# Altium integrated library Dallas Memory Static RAM.IntLib: 12 symbols
Pins are listed as number, name and electrical type; pins without a type are passive.

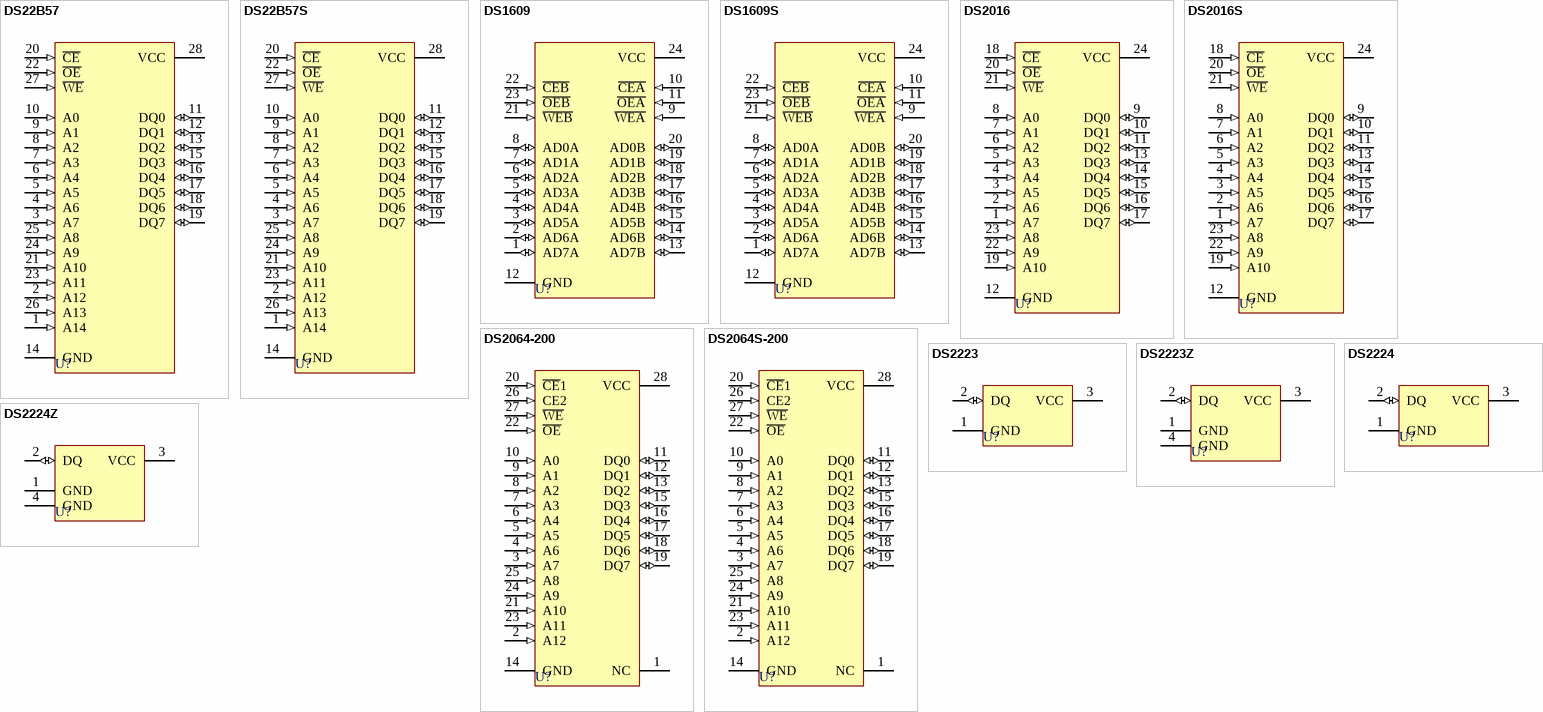
[diagram p0: symbols DS22B57 to DS2224Z]

## DS22B57
designator U?
32K X 8 Static RAM; Published: 13-Oct-2000; LatestRevisionDate: 06-Jun-2005; LatestRevisionNote: Stylized 3D Model Added.; DatasheetVersion: 5-Apr-1994; PackageVersion: 1994; PackageReference: DIP28WC; Publisher: Altium Limited; PackageDescription: DIP; 28 Leads; Row Spacing 15.24 mm; Pitch 2.54 mm; ComponentLink1Description: Manufacturer Link; ComponentLink1URL: http://www.maxim-ic.com/
footprint DIP28WC (DIP; 28 Leads; Row Spacing 15.24 mm; Pitch 2.54 mm)
3D model DIP28WA (DIP; 28 Leads; Row Spacing 15.24 mm; Pitch 2.54 mm)
pins: 1 A14 (in), 2 A12 (in), 3 A7 (in), 4 A6 (in), 5 A5 (in), 6 A4 (in), 7 A3 (in), 8 A2 (in), 9 A1 (in), 10 A0 (in), 11 DQ0 (io), 12 DQ1 (io), 13 DQ2 (io), 14 GND (power), 15 DQ3 (io), 16 DQ4 (io), 17 DQ5 (io), 18 DQ6 (io), 19 DQ7 (io), 20 ~{CE} (in), 21 A10 (in), 22 ~{OE} (in), 23 A11 (in), 24 A9 (in), 25 A8 (in), 26 A13 (in), 27 ~{WE} (in), 28 VCC (power)

## DS22B57S
designator U?
32K X 8 Static RAM; Published: 13-Oct-2000; LatestRevisionDate: 13-Apr-2006; LatestRevisionNote: IPC-7351 Footprint Added.; DatasheetVersion: 5-Apr-1994; PackageVersion: Apr-1998; PackageReference: SOIC28WA; Publisher: Altium Limited; PackageDescription: 28-Pin Small Outline Integrated Circuit 1.27 mm Pitch; Code_JEDEC: MO-120-AB; ComponentLink1Description: Manufacturer Link; ComponentLink1URL: http://www.maxim-ic.com/
footprint SOIC28WA_N (SOIC, 28-Leads, Body 17.9x8.4mm, Pitch 1.27mm, IPC Medium Density)
footprint SOIC28WA_L (SOIC, 28-Leads, Body 17.9x8.4mm, Pitch 1.27mm, IPC High Density)
footprint SOIC28WA_M (SOIC, 28-Leads, Body 17.9x8.4mm, Pitch 1.27mm, IPC Low Density)
3D model SOIC28WA (28-Pin Small Outline Integrated Circuit 1.27 mm Pitch)
pins: 1 A14 (in), 2 A12 (in), 3 A7 (in), 4 A6 (in), 5 A5 (in), 6 A4 (in), 7 A3 (in), 8 A2 (in), 9 A1 (in), 10 A0 (in), 11 DQ0 (io), 12 DQ1 (io), 13 DQ2 (io), 14 GND (power), 15 DQ3 (io), 16 DQ4 (io), 17 DQ5 (io), 18 DQ6 (io), 19 DQ7 (io), 20 ~{CE} (in), 21 A10 (in), 22 ~{OE} (in), 23 A11 (in), 24 A9 (in), 25 A8 (in), 26 A13 (in), 27 ~{WE} (in), 28 VCC (power)

## DS1609
designator U?
Dual Port RAM; Published: 13-Oct-2000; LatestRevisionDate: 06-Jun-2005; LatestRevisionNote: Stylized 3D Model Added.; DatasheetVersion: 4-Feb-1999; PackageVersion: 1999; PackageReference: DIP24W; Publisher: Altium Limited; PackageDescription: DIP; 24 Leads; Row Spacing 15.24 mm; Pitch 2.54 mm; ComponentLink1Description: Manufacturer Link; ComponentLink1URL: http://www.maxim-ic.com/; ComponentLink2Description: Datasheet; ComponentLink2URL: http://pdfserv.maxim-ic.com/en/ds/DS1609.pdf
footprint DIP24W (DIP; 24 Leads; Row Spacing 15.24 mm; Pitch 2.54 mm)
3D model DIP24W (DIP; 24 Leads; Row Spacing 15.24 mm; Pitch 2.54 mm)
pins: 1 AD7A (io), 2 AD6A (io), 3 AD5A (io), 4 AD4A (io), 5 AD3A (io), 6 AD2A (io), 7 AD1A (io), 8 AD0A (io), 9 ~{WEA} (in), 10 ~{CEA} (in), 11 ~{OEA} (in), 12 GND (power), 13 AD7B (io), 14 AD6B (io), 15 AD5B (io), 16 AD4B (io), 17 AD3B (io), 18 AD2B (io), 19 AD1B (io), 20 AD0B (io), 21 ~{WEB} (in), 22 ~{CEB} (in), 23 ~{OEB} (in), 24 VCC (power)

## DS1609S
designator U?
Dual Port RAM; ComponentAvailability: Not for New Design; Published: 13-Oct-2000; LatestRevisionDate: 13-Apr-2006; LatestRevisionNote: IPC-7351 Footprint Added.; DatasheetVersion: 4-Feb-1999; PackageVersion: 1994; PackageReference: SOIC24NA; Publisher: Altium Limited; PackageDescription: 24-Pin Small Outline Integrated Circuit 1.27 mm Pitch; Code_IPC: SOIC127P1047-24; ComponentLink1Description: Manufacturer Link; ComponentLink1URL: http://www.maxim-ic.com/; ComponentLink2Description: Datasheet; ComponentLink2URL: http://pdfserv.maxim-ic.com/en/ds/DS1609.pdf
footprint SOIC24NA_N (SOIC, 24-Leads, Body 15.4x7.5mm, Pitch 1.27mm, IPC Medium Density)
footprint SOIC24NA_L (SOIC, 24-Leads, Body 15.4x7.5mm, Pitch 1.27mm, IPC High Density)
footprint SOIC24NA_M (SOIC, 24-Leads, Body 15.4x7.5mm, Pitch 1.27mm, IPC Low Density)
3D model SOIC24NA (24-Pin Small Outline Integrated Circuit 1.27 mm Pitch)
pins: 1 AD7A (io), 2 AD6A (io), 3 AD5A (io), 4 AD4A (io), 5 AD3A (io), 6 AD2A (io), 7 AD1A (io), 8 AD0A (io), 9 ~{WEA} (in), 10 ~{CEA} (in), 11 ~{OEA} (in), 12 GND (power), 13 AD7B (io), 14 AD6B (io), 15 AD5B (io), 16 AD4B (io), 17 AD3B (io), 18 AD2B (io), 19 AD1B (io), 20 AD0B (io), 21 ~{WEB} (in), 22 ~{CEB} (in), 23 ~{OEB} (in), 24 VCC (power)

## DS2016
designator U?
2K X 8 3V/5V Operation Static RAM; Published: 13-Oct-2000; LatestRevisionDate: 06-Jun-2005; LatestRevisionNote: Stylized 3D Model Added.; DatasheetVersion: 25-Feb-1998; PackageVersion: 1999; PackageReference: DIP24W; Publisher: Altium Limited; PackageDescription: DIP; 24 Leads; Row Spacing 15.24 mm; Pitch 2.54 mm; ComponentLink1Description: Manufacturer Link; ComponentLink1URL: http://www.maxim-ic.com/; ComponentLink2Description: Datasheet; ComponentLink2URL: http://pdfserv.maxim-ic.com/en/ds/DS2016.pdf
footprint DIP24W (DIP; 24 Leads; Row Spacing 15.24 mm; Pitch 2.54 mm)
3D model DIP24W (DIP; 24 Leads; Row Spacing 15.24 mm; Pitch 2.54 mm)
pins: 1 A7 (in), 2 A6 (in), 3 A5 (in), 4 A4 (in), 5 A3 (in), 6 A2 (in), 7 A1 (in), 8 A0 (in), 9 DQ0 (io), 10 DQ1 (io), 11 DQ2 (io), 12 GND (power), 13 DQ3 (io), 14 DQ4 (io), 15 DQ5 (io), 16 DQ6 (io), 17 DQ7 (io), 18 ~{CE} (in), 19 A10 (in), 20 ~{OE} (in), 21 ~{WE} (in), 22 A9 (in), 23 A8 (in), 24 VCC (power)

## DS2016S
designator U?
2K X 8 3V/5V Operation Static RAM; Published: 13-Oct-2000; LatestRevisionDate: 13-Apr-2006; LatestRevisionNote: IPC-7351 Footprint Added.; DatasheetVersion: 25-Feb-1998; PackageVersion: Feb-1998; PackageReference: SOIC24WA; Publisher: Altium Limited; PackageDescription: 24-Pin Small Outline Integrated Circuit 1.27 mm Pitch; ComponentLink1Description: Manufacturer Link; ComponentLink1URL: http://www.maxim-ic.com/; ComponentLink2Description: Datasheet; ComponentLink2URL: http://pdfserv.maxim-ic.com/en/ds/DS2016.pdf
footprint SOIC24WA_N (SOIC, 24-Leads, Body 15.6x8.6mm, Pitch 1.27mm, IPC Medium Density)
footprint SOIC24WA_L (SOIC, 24-Leads, Body 15.6x8.6mm, Pitch 1.27mm, IPC High Density)
footprint SOIC24WA_M (SOIC, 24-Leads, Body 15.6x8.6mm, Pitch 1.27mm, IPC Low Density)
3D model SOIC24WA (24-Pin Small Outline Integrated Circuit 1.27 mm Pitch)
pins: 1 A7 (in), 2 A6 (in), 3 A5 (in), 4 A4 (in), 5 A3 (in), 6 A2 (in), 7 A1 (in), 8 A0 (in), 9 DQ0 (io), 10 DQ1 (io), 11 DQ2 (io), 12 GND (power), 13 DQ3 (io), 14 DQ4 (io), 15 DQ5 (io), 16 DQ6 (io), 17 DQ7 (io), 18 ~{CE} (in), 19 A10 (in), 20 ~{OE} (in), 21 ~{WE} (in), 22 A9 (in), 23 A8 (in), 24 VCC (power)

## DS2064-200
designator U?
8K X 8 Static RAM; Note: Pin number 1 is Not Connected (NC); Published: 13-Oct-2000; LatestRevisionDate: 06-Jun-2005; LatestRevisionNote: Stylized 3D Model Added.; DatasheetVersion: 25-Feb-1998; PackageVersion: 1998; PackageReference: DIP28WA; Publisher: Altium Limited; PackageDescription: DIP; 28 Leads; Row Spacing 15.24 mm; Pitch 2.54 mm; ComponentLink1Description: Manufacturer Link; ComponentLink1URL: http://www.maxim-ic.com/; ComponentLink2Description: Datasheet; ComponentLink2URL: http://pdfserv.maxim-ic.com/en/ds/DS2064.pdf
footprint DIP28WA (DIP; 28 Leads; Row Spacing 15.24 mm; Pitch 2.54 mm)
3D model DIP28WA (DIP; 28 Leads; Row Spacing 15.24 mm; Pitch 2.54 mm)
pins: 1 NC, 2 A12 (in), 3 A7 (in), 4 A6 (in), 5 A5 (in), 6 A4 (in), 7 A3 (in), 8 A2 (in), 9 A1 (in), 10 A0 (in), 11 DQ0 (io), 12 DQ1 (io), 13 DQ2 (io), 14 GND (power), 15 DQ3 (io), 16 DQ4 (io), 17 DQ5 (io), 18 DQ6 (io), 19 DQ7 (io), 20 ~{CE}1 (in), 21 A10 (in), 22 ~{OE} (in), 23 A11 (in), 24 A9 (in), 25 A8 (in), 26 CE2 (in), 27 ~{WE} (in), 28 VCC (power)

## DS2064S-200
designator U?
8K X 8 Static RAM; Note: Pin number 1 is Not Connected (NC); Published: 13-Oct-2000; LatestRevisionDate: 13-Apr-2006; LatestRevisionNote: IPC-7351 Footprint Added.; DatasheetVersion: 25-Feb-1998; PackageVersion: Feb-1998; PackageReference: SOIC28VWB; Publisher: Altium Limited; PackageDescription: 28-Pin Small Outline Package 1.27 mm Pitch; ComponentLink1Description: Manufacturer Link; ComponentLink1URL: http://www.maxim-ic.com/; ComponentLink2Description: Datasheet; ComponentLink2URL: http://pdfserv.maxim-ic.com/en/ds/DS2064.pdf
footprint SOIC28VWB_N (SOP, 28-Leads, Body 18.1x8.6mm, Pitch 1.27mm, IPC Medium Density)
footprint SOIC28VWB_L (SOP, 28-Leads, Body 18.1x8.6mm, Pitch 1.27mm, IPC High Density)
footprint SOIC28VWB_M (SOP, 28-Leads, Body 18.1x8.6mm, Pitch 1.27mm, IPC Low Density)
3D model SOIC28VWB (28-Pin Small Outline Package 1.27 mm Pitch)
pins: 1 NC, 2 A12 (in), 3 A7 (in), 4 A6 (in), 5 A5 (in), 6 A4 (in), 7 A3 (in), 8 A2 (in), 9 A1 (in), 10 A0 (in), 11 DQ0 (io), 12 DQ1 (io), 13 DQ2 (io), 14 GND (power), 15 DQ3 (io), 16 DQ4 (io), 17 DQ5 (io), 18 DQ6 (io), 19 DQ7 (io), 20 ~{CE}1 (in), 21 A10 (in), 22 ~{OE} (in), 23 A11 (in), 24 A9 (in), 25 A8 (in), 26 CE2 (in), 27 ~{WE} (in), 28 VCC (power)

## DS2223
designator U?
EconoRAM; Published: 13-Oct-2000; LatestRevisionDate: 17-Jul-2002; LatestRevisionNote: Re-released for DXP Platform.; DatasheetVersion: 5-Aug-1998; PackageVersion: Feb-1999; PackageReference: TO-92; Publisher: Altium Limited; PackageDescription: TO, Flat Index; 3 In-Line, Axial Leads; Body Dia. 4.7mm; Leads 0.56 x 0.51 mm (max); ComponentLink1Description: Manufacturer Link; ComponentLink1URL: http://www.maxim-ic.com/; ComponentLink2Description: Datasheet; ComponentLink2URL: http://pdfserv.maxim-ic.com/en/ds/DS2223-DS2224.pdf; ComponentLink3Description: Discontinuation Notice; ComponentLink3URL: http://www.maxim-ic.com/qa/pdfs/non-obsolescence-letter.pdf
footprint TO-92 (TO, Flat Index; 3 In-Line, Axial Leads; Body Dia. 4.7mm; Leads 0.56 x 0.51 mm (max))
pins: 1 GND (power), 2 DQ (io), 3 VCC (power)

## DS2223Z
designator U?
EconoRAM; Published: 13-Oct-2000; LatestRevisionDate: 17-Jul-2002; LatestRevisionNote: Re-released for DXP Platform.; DatasheetVersion: 5-Aug-1998; PackageVersion: Feb-1999; PackageReference: SOT-223; Publisher: Altium Limited; PackageDescription: SOT-223/SC-73; 4 Leads; Body 6.7 x 7.3 mm, inc. leads (LxW max); ComponentLink1Description: Manufacturer Link; ComponentLink1URL: http://www.maxim-ic.com/; ComponentLink2Description: Datasheet; ComponentLink2URL: http://pdfserv.maxim-ic.com/en/ds/DS2223-DS2224.pdf; ComponentLink3Description: Discontinuation Notice; ComponentLink3URL: http://www.maxim-ic.com/qa/pdfs/non-obsolescence-letter.pdf
footprint SOT-223 (SOT-223/SC-73; 4 Leads; Body 6.7 x 7.3 mm, inc. leads (LxW max))
pins: 1 GND (power), 2 DQ (io), 3 VCC (power), 4 GND (power)

## DS2224
designator U?
EconoRAM; Published: 13-Oct-2000; LatestRevisionDate: 17-Jul-2002; LatestRevisionNote: Re-released for DXP Platform.; DatasheetVersion: 5-Aug-1998; PackageVersion: Feb-1999; PackageReference: TO-92; Publisher: Altium Limited; PackageDescription: TO, Flat Index; 3 In-Line, Axial Leads; Body Dia. 4.7mm; Leads 0.56 x 0.51 mm (max); ComponentLink1Description: Manufacturer Link; ComponentLink1URL: http://www.maxim-ic.com/; ComponentLink2Description: Datasheet; ComponentLink2URL: http://pdfserv.maxim-ic.com/en/ds/DS2223-DS2224.pdf; ComponentLink3Description: Discontinuation Notice; ComponentLink3URL: http://www.maxim-ic.com/qa/pdfs/non-obsolescence-letter.pdf
footprint TO-92 (TO, Flat Index; 3 In-Line, Axial Leads; Body Dia. 4.7mm; Leads 0.56 x 0.51 mm (max))
pins: 1 GND (power), 2 DQ (io), 3 VCC (power)

## DS2224Z
designator U?
EconoRAM; Published: 13-Oct-2000; LatestRevisionDate: 17-Jul-2002; LatestRevisionNote: Re-released for DXP Platform.; DatasheetVersion: 5-Aug-1998; PackageVersion: Feb-1999; PackageReference: SOT-223; Publisher: Altium Limited; PackageDescription: SOT-223/SC-73; 4 Leads; Body 6.7 x 7.3 mm, inc. leads (LxW max); ComponentLink1Description: Manufacturer Link; ComponentLink1URL: http://www.maxim-ic.com/; ComponentLink2Description: Datasheet; ComponentLink2URL: http://pdfserv.maxim-ic.com/en/ds/DS2223-DS2224.pdf; ComponentLink3Description: Discontinuation Notice; ComponentLink3URL: http://www.maxim-ic.com/qa/pdfs/non-obsolescence-letter.pdf
footprint SOT-223 (SOT-223/SC-73; 4 Leads; Body 6.7 x 7.3 mm, inc. leads (LxW max))
pins: 1 GND (power), 2 DQ (io), 3 VCC (power), 4 GND (power)